# Altium schematic symbol library 613 0xx 216 921.SchLib: 13 symbols
Pins are listed as number, name and electrical type; pins without a type are passive.

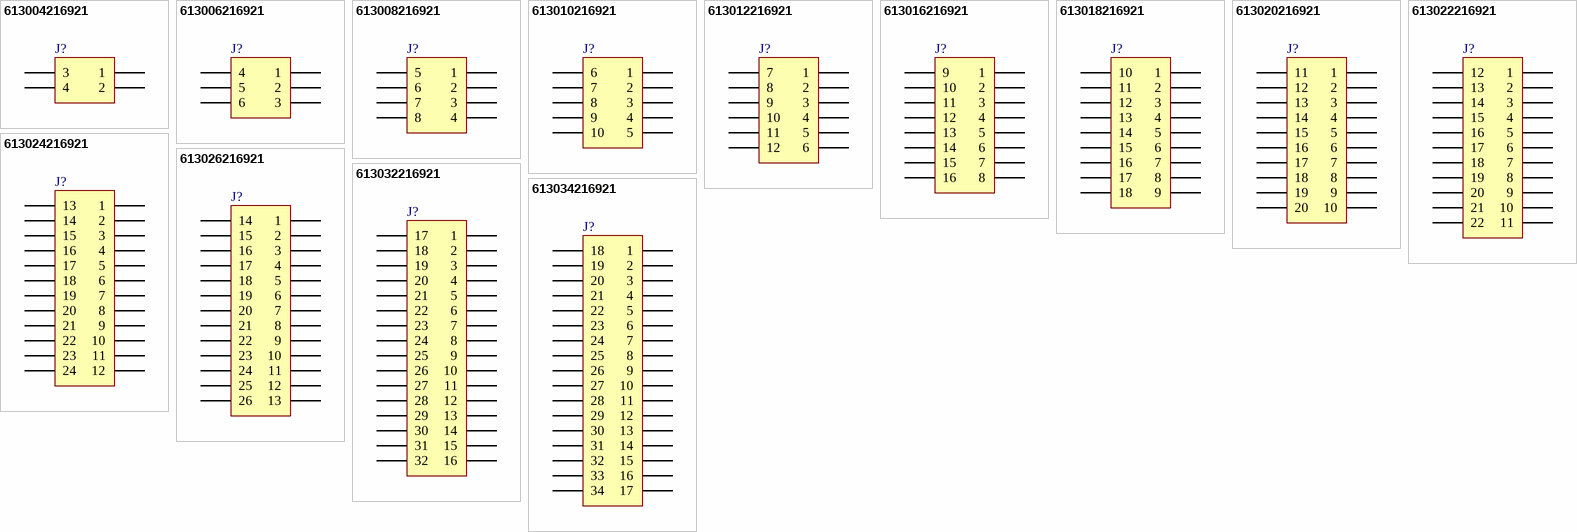
[diagram p0: symbols 613004216921 to 613034216921]

## 613004216921
designator J?, comment 04p  (value not drawn)
WR-PHD 2.54 mm Dual Socket Header Bottom Entry Large, 04p; PartNumber: 613004216921; PublishedDate: July 2016; Publisher: Wurth Elektronik; ComponentLink1Description: Manufacturer; ComponentLink1URL: http://www.we-online.de; ComponentLink2Description: Datasheet; ComponentLink2URL: http://katalog.we-online.de/em/datasheet/6130xx216921.pdf; PinNumber: 04p
footprint 613004216921
pins: 1, 2, 3, 4

## 613006216921
designator J?, comment 06p  (value not drawn)
WR-PHD 2.54 mm Dual Socket Header Bottom Entry Large, 06p; PartNumber: 613006216921; PublishedDate: July 2016; Publisher: Wurth Elektronik; ComponentLink1Description: Manufacturer; ComponentLink1URL: http://www.we-online.de; ComponentLink2Description: Datasheet; ComponentLink2URL: http://katalog.we-online.de/em/datasheet/6130xx216921.pdf; PinNumber: 06p
footprint 613006216921
pins: 1, 2, 3, 4, 5, 6

## 613008216921
designator J?, comment 08p  (value not drawn)
WR-PHD 2.54 mm Dual Socket Header Bottom Entry Large, 08p; PartNumber: 613008216921; PublishedDate: July 2016; Publisher: Wurth Elektronik; ComponentLink1Description: Manufacturer; ComponentLink1URL: http://www.we-online.de; ComponentLink2Description: Datasheet; ComponentLink2URL: http://katalog.we-online.de/em/datasheet/6130xx216921.pdf; PinNumber: 08p
footprint 613008216921
pins: 1, 2, 3, 4, 5, 6, 7, 8

## 613010216921
designator J?, comment 10p  (value not drawn)
WR-PHD 2.54 mm Dual Socket Header Bottom Entry Large, 10p; PartNumber: 613010216921; PublishedDate: July 2016; Publisher: Wurth Elektronik; ComponentLink1Description: Manufacturer; ComponentLink1URL: http://www.we-online.de; ComponentLink2Description: Datasheet; ComponentLink2URL: http://katalog.we-online.de/em/datasheet/6130xx216921.pdf; PinNumber: 10p
footprint 613010216921
pins: 1, 2, 3, 4, 5, 6, 7, 8, 9, 10

## 613012216921
designator J?, comment 12p  (value not drawn)
WR-PHD 2.54 mm Dual Socket Header Bottom Entry Large, 12p; PartNumber: 613012216921; PublishedDate: July 2016; Publisher: Wurth Elektronik; ComponentLink1Description: Manufacturer; ComponentLink1URL: http://www.we-online.de; ComponentLink2Description: Datasheet; ComponentLink2URL: http://katalog.we-online.de/em/datasheet/6130xx216921.pdf; PinNumber: 12p
footprint 613012216921
pins: 1, 2, 3, 4, 5, 6, 7, 8, 9, 10, 11, 12

## 613016216921
designator J?, comment 16p  (value not drawn)
WR-PHD 2.54 mm Dual Socket Header Bottom Entry Large, 16p; PartNumber: 613016216921; PublishedDate: July 2016; Publisher: Wurth Elektronik; ComponentLink1Description: Manufacturer; ComponentLink1URL: http://www.we-online.de; ComponentLink2Description: Datasheet; ComponentLink2URL: http://katalog.we-online.de/em/datasheet/6130xx216921.pdf; PinNumber: 16p
footprint 613016216921
pins: 1, 2, 3, 4, 5, 6, 7, 8, 9, 10, 11, 12, 13, 14, 15, 16

## 613018216921
designator J?, comment 18p  (value not drawn)
WR-PHD 2.54 mm Dual Socket Header Bottom Entry Large, 18p; PartNumber: 613018216921; PublishedDate: July 2016; Publisher: Wurth Elektronik; ComponentLink1Description: Manufacturer; ComponentLink1URL: http://www.we-online.de; ComponentLink2Description: Datasheet; ComponentLink2URL: http://katalog.we-online.de/em/datasheet/6130xx216921.pdf; PinNumber: 18p
footprint 613018216921
pins: 1, 2, 3, 4, 5, 6, 7, 8, 9, 10, 11, 12, 13, 14, 15, 16, 17, 18

## 613020216921
designator J?, comment 20p  (value not drawn)
WR-PHD 2.54 mm Dual Socket Header Bottom Entry Large, 20p; PartNumber: 613020216921; PublishedDate: July 2016; Publisher: Wurth Elektronik; ComponentLink1Description: Manufacturer; ComponentLink1URL: http://www.we-online.de; ComponentLink2Description: Datasheet; ComponentLink2URL: http://katalog.we-online.de/em/datasheet/6130xx216921.pdf; PinNumber: 20p
footprint 613020216921
pins: 1, 2, 3, 4, 5, 6, 7, 8, 9, 10, 11, 12, 13, 14, 15, 16, 17, 18, 19, 20

## 613022216921
designator J?, comment 22p  (value not drawn)
WR-PHD 2.54 mm Dual Socket Header Bottom Entry Large, 22p; PartNumber: 613022216921; PublishedDate: July 2016; Publisher: Wurth Elektronik; ComponentLink1Description: Manufacturer; ComponentLink1URL: http://www.we-online.de; ComponentLink2Description: Datasheet; ComponentLink2URL: http://katalog.we-online.de/em/datasheet/6130xx216921.pdf; PinNumber: 22p
footprint 613022216921
pins: 1, 2, 3, 4, 5, 6, 7, 8, 9, 10, 11, 12, 13, 14, 15, 16, 17, 18, 19, 20, 21, 22

## 613024216921
designator J?, comment 24p  (value not drawn)
WR-PHD 2.54 mm Dual Socket Header Bottom Entry Large, 24p; PartNumber: 613024216921; PublishedDate: July 2016; Publisher: Wurth Elektronik; ComponentLink1Description: Manufacturer; ComponentLink1URL: http://www.we-online.de; ComponentLink2Description: Datasheet; ComponentLink2URL: http://katalog.we-online.de/em/datasheet/6130xx216921.pdf; PinNumber: 24p
footprint 613024216921
pins: 1, 2, 3, 4, 5, 6, 7, 8, 9, 10, 11, 12, 13, 14, 15, 16, 17, 18, 19, 20, 21, 22, 23, 24

## 613026216921
designator J?, comment 26p  (value not drawn)
WR-PHD 2.54 mm Dual Socket Header Bottom Entry Large, 26p; PartNumber: 613026216921; PublishedDate: July 2016; Publisher: Wurth Elektronik; ComponentLink1Description: Manufacturer; ComponentLink1URL: http://www.we-online.de; ComponentLink2Description: Datasheet; ComponentLink2URL: http://katalog.we-online.de/em/datasheet/6130xx216921.pdf; PinNumber: 26p
footprint 613026216921
pins: 1, 2, 3, 4, 5, 6, 7, 8, 9, 10, 11, 12, 13, 14, 15, 16, 17, 18, 19, 20, 21, 22, 23, 24, 25, 26

## 613032216921
designator J?, comment 32p  (value not drawn)
WR-PHD 2.54 mm Dual Socket Header Bottom Entry Large, 32p; PartNumber: 613032216921; PublishedDate: July 2016; Publisher: Wurth Elektronik; ComponentLink1Description: Manufacturer; ComponentLink1URL: http://www.we-online.de; ComponentLink2Description: Datasheet; ComponentLink2URL: http://katalog.we-online.de/em/datasheet/6130xx216921.pdf; PinNumber: 32p
footprint 613032216921
pins: 1, 2, 3, 4, 5, 6, 7, 8, 9, 10, 11, 12, 13, 14, 15, 16, 17, 18, 19, 20, 21, 22, 23, 24, 25, 26, 27, 28, 29, 30, 31, 32

## 613034216921
designator J?, comment 34p  (value not drawn)
WR-PHD 2.54 mm Dual Socket Header Bottom Entry Large, 34p; PartNumber: 613034216921; PublishedDate: July 2016; Publisher: Wurth Elektronik; ComponentLink1Description: Manufacturer; ComponentLink1URL: http://www.we-online.de; ComponentLink2Description: Datasheet; ComponentLink2URL: http://katalog.we-online.de/em/datasheet/6130xx216921.pdf; PinNumber: 34p
footprint 613034216921
pins: 1, 2, 3, 4, 5, 6, 7, 8, 9, 10, 11, 12, 13, 14, 15, 16, 17, 18, 19, 20, 21, 22, 23, 24, 25, 26, 27, 28, 29, 30, 31, 32, 33, 34